# Altium footprint library ELECTRONIC LOAD.PcbLib: 21 footprints (part 2 of 2)
Each footprint in its own frame and in the unit in brackets; x right, y up, seen from the top. Pads: shape width x height; smd on the part's side, far side on the other; paste and mask are expansions set on the pad; w line width, h text height; cw(c..) or ccw(c..) is an arc to the next point about the centre after c.
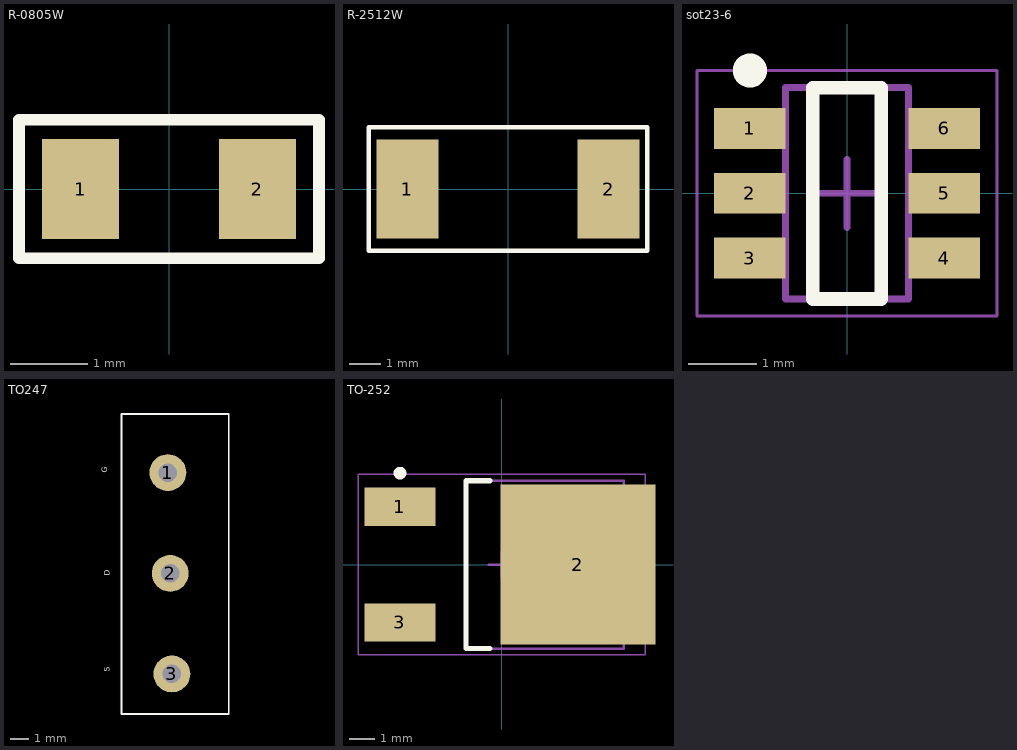
[diagram p1: the footprints below, top view; thin cyan lines are the x and y axes]

## R-0805W [mm] "resistor 0805 wave soldering"
pads (2):
  rect 1x1.3 smd: 1(-1.15,0) 2(1.15,0)
Top Overlay:
  lines w0.152: -1.95,-0.9 -0.9,-0.9 1.95,-0.9 1.95,0.9 -0.9,0.9 -1.95,0.9 -1.95,-0.9
3D body "RES0805.stp": height 0.5, standoff 0, extent -1,-0.625 1,0.625

## R-2512W [mm] "resistor 2512 wave soldering"
pads (2):
  rect 2x3.2 smd: 1(-3.25,0) 2(3.25,0)
Top Overlay:
  lines w0.152: -4.5,-2 -4.5,2 2.15,2 4.5,2 4.5,-2 2.15,-2 -4.5,-2
3D body "res2512.stp": height 0.55, standoff 0, extent -3.15,-1.55 3.15,1.55

## sot23-6 [mm] "SOT23, 6-Leads, Body 2,90x2,70mm, Pitch 0,95mm, IPC Medium Density"
height 1.45
pads (6):
  rect 1.05x0.6 smd: 1(-1.425,0.95) 2(-1.425,0) 3(-1.425,-0.95) 4(1.425,-0.95) 5(1.425,0) 6(1.425,0.95)
Top Overlay:
  circle w0.25: c-1.425,1.8 r0.125
  lines w0.2: -0.5,-1.55 0.5,-1.55 0.5,1.55 -0.5,1.55 -0.5,-1.55
Mechanical 13:
  lines w0.1: -0.9,-1.55 -0.9,1.55 0.9,1.55 0.9,-1.55 -0.9,-1.55
Mechanical 15:
  lines w0.05: -2.2,-1.8 -2.2,1.8 2.2,1.8 2.2,-1.8 -2.2,-1.8
  lines w0.1: -0.5,0 0.5,0 ; 0,-0.5 0,0.5
3D body "SOT95P270X145-6N.step": height 1.45, standoff 0, extent -1.7,-1.55 1.7,1.55

## TO247 [mm]
pads (3):
  round 2 hole 1: 1(-1110.234,1113.155) 2(-1110.107,1107.694) 3(-1110.016,1102.244)
Top Overlay:
  lines w0.1: -1112.744,1100.074 -1112.744,1116.33 -1106.932,1116.33 -1106.932,1100.074 -1112.744,1100.074
  text "S" at -1113.287,1102.36 h0.5
  text "D" at -1113.282,1107.562 h0.5
  text "G" at -1113.414,1113.134 h0.5

## TO-252 [mm]
height 2.4
pads (3):
  rect 2.8x1.5 smd: 1(-4,2.275) 3(-4,-2.275)
  rect 6.1x6.3 smd: 2(3,0)
Top Overlay:
  circle w0.25: c-4,3.6 r0.125
  lines w0.2: -0.45,-3.3 -1.4,-3.3 -1.4,3.3 -0.45,3.3
Top Assembly:
  lines w0.1: -1.4,-3.3 -1.4,3.3 4.8,3.3 4.8,-3.3 -1.4,-3.3
Top Courtyard:
  lines w0.05: -5.65,-3.55 -5.65,3.55 5.65,3.55 5.65,-3.55 -5.65,-3.55
  lines w0.1: -0.5,0 0.5,0 ; 0,-0.5 0,0.5
3D body "User Library-DPAK_TO-252AA.step": height 2.41, standoff 0.01, extent -4.523,-3.367 5.577,3.367